# Altium footprint library PCB - THT - B32672L2105J000.PCBLIB: 1 footprints
Each footprint in its own frame and in the unit in brackets; x right, y up, seen from the top. Pads: shape width x height; smd on the part's side, far side on the other; paste and mask are expansions set on the pad; w line width, h text height; cw(c..) or ccw(c..) is an arc to the next point about the centre after c.
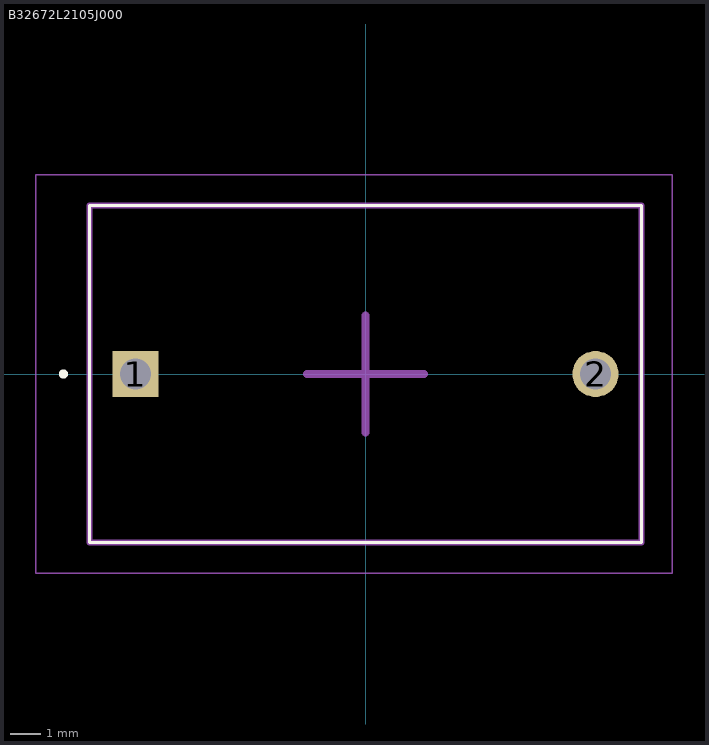
[diagram p0: the footprint, top view; thin cyan lines are the x and y axes]

## B32672L2105J000 [mm]
pads (2):
  rect 1.5x1.5 hole 1: 1(-7.5,0)
  round 1.5 hole 1: 2(7.5,0)
Top Overlay:
  circle w0.2: c-9.85,0 r0.05
  lines w0.1: -9,-5.5 -9,5.5 9,5.5 9,-5.5 -9,-5.5
Top Assembly:
  lines w0.2: -9,-5.5 -9,5.5 9,5.5 9,-5.5 -9,-5.5
Top Courtyard:
  lines w0.05: -10.75,-6.5 -10.75,6.5 10,6.5 10,-6.5 -10.75,-6.5
Top Designator:
  text ".Designator" at -7.747,6.985 h1.52
Top Component Center:
  lines w0.254: -1.905,0 0,0 ; 0,-1.905 0,0 ; 0,1.905 0,0 ; 1.905,0 0,0
3D body "B32672L2105J000.stp": height 18.5, standoff -6, extent -9,-5.5 9,5.5